# Altium footprint library GRAVITECH_CON-SOCJ-2155.PcbLib: 1 footprints
Each footprint in its own frame and in the unit in brackets; x right, y up, seen from the top. Pads: shape width x height; smd on the part's side, far side on the other; paste and mask are expansions set on the pad; w line width, h text height; cw(c..) or ccw(c..) is an arc to the next point about the centre after c.
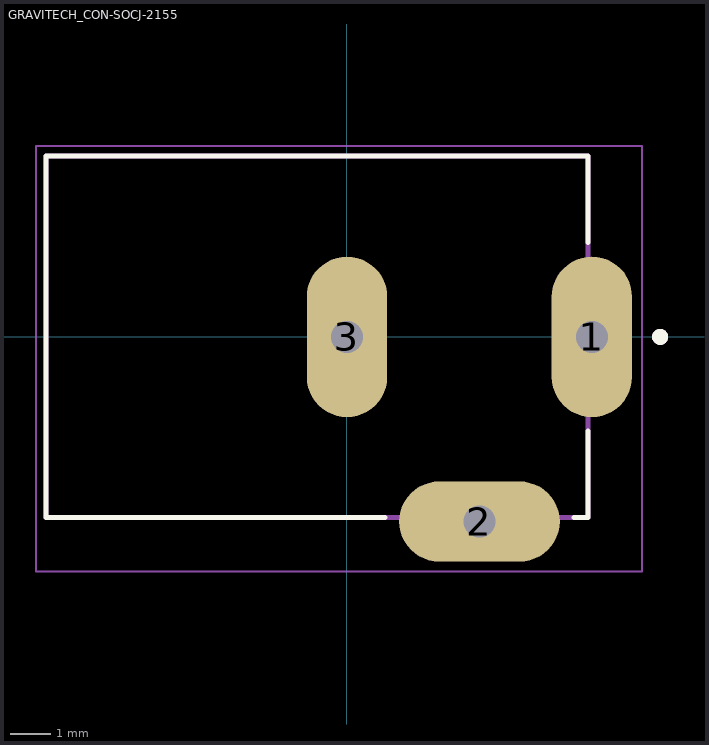
[diagram p0: the footprint, top view; thin cyan lines are the x and y axes]

## GRAVITECH_CON-SOCJ-2155 [mm]
height 11.1
pads (3):
  oval 2x4 hole 0.8 square: 1(6.1,0) 3(0,0)
  oval 4x2 hole 0.8 square: 2(3.3,-4.6)
Top Overlay:
  circle w0.2: c7.8,0 r0.1
  lines w0.127: 0.95,-4.5 -7.5,-4.5 -7.5,4.5 6,4.5 6,2.35 ; 5.65,-4.5 6,-4.5 6,-2.35
Mechanical 13:
  circle w0.2: c7.8,0 r0.1
  lines w0.127: -7.5,-4.5 6,-4.5 6,4.5 -7.5,4.5 -7.5,-4.5
Mechanical 15:
  lines w0.05: -7.75,-5.85 7.35,-5.85 7.35,4.75 -7.75,4.75 -7.75,-5.85
3D body "step_temp.STEP": height 11.1, standoff -4.3, extent -4.5,-6.75 4.75,7.35